# Altium schematic symbol library УГО.SchLib: 31 symbols
Pins are listed as number, name and electrical type; pins without a type are passive.

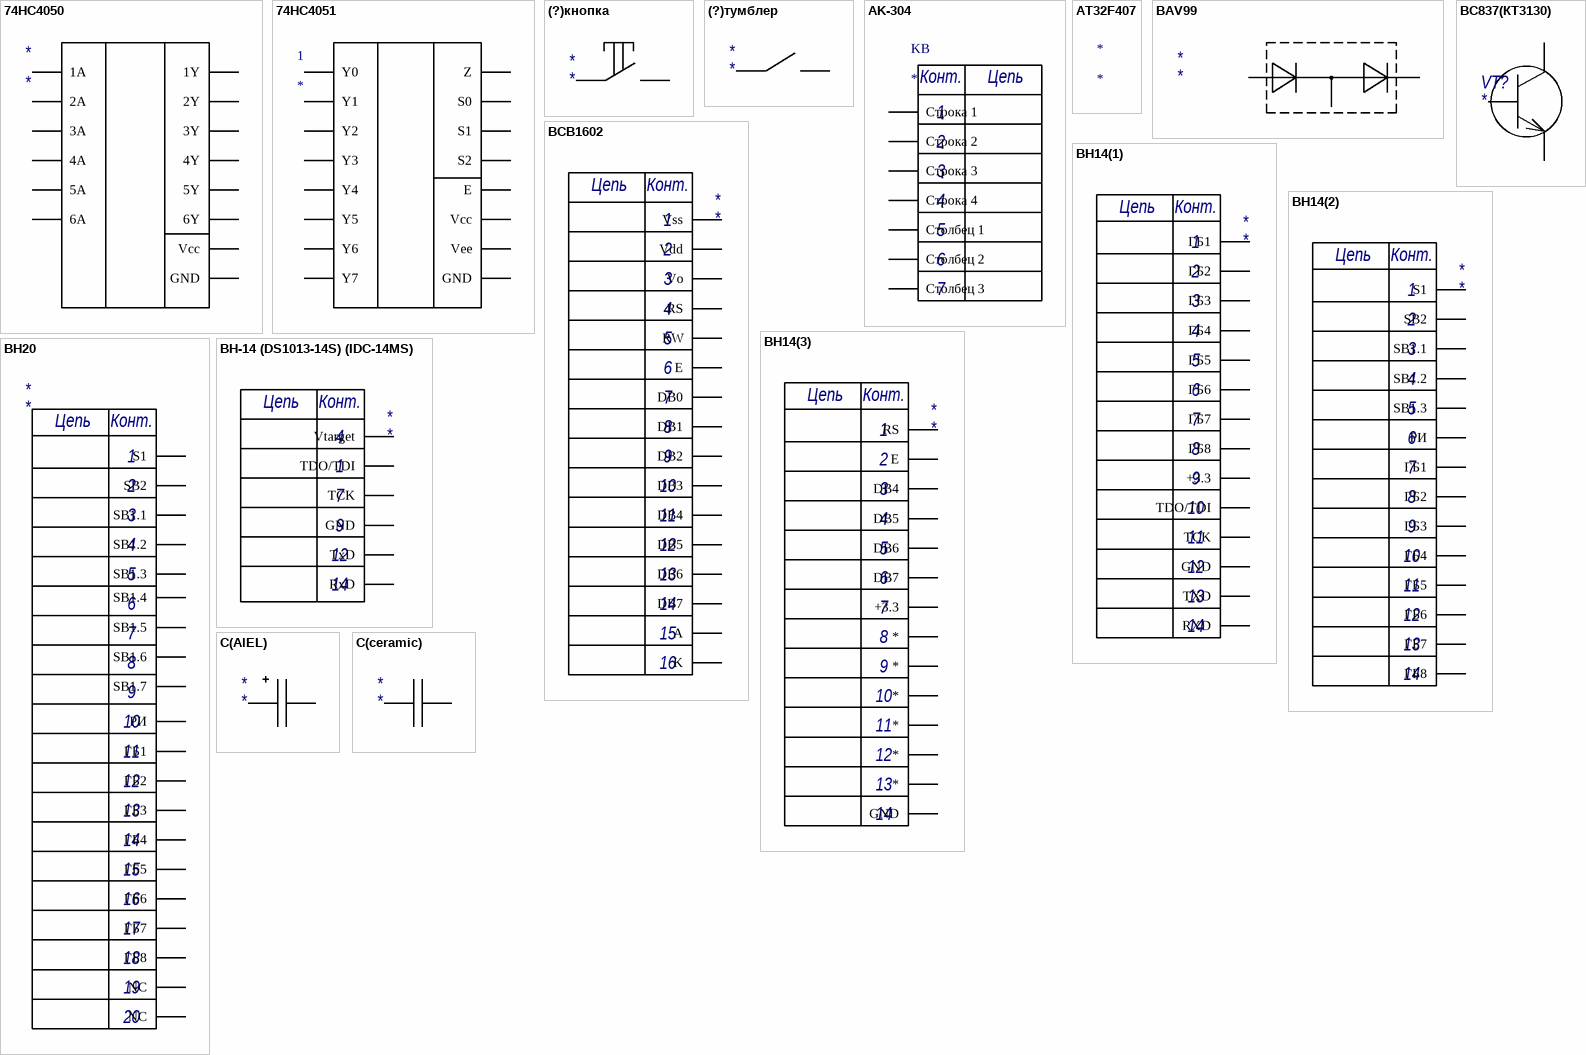
[diagram p0: symbols 74HC4050 to C(ceramic)]

## 74HC4050
designator *
footprint 74HC4050(51)
pins: 1 Vcc, 2 1Y, 3 1A, 4 2Y, 5 2A, 6 3Y, 7 3A, 8 GND, 9 4A, 10 4Y, 11 5A, 12 5Y, 14 6A, 15 6Y

## 74HC4051
designator 1
footprint 74HC4050(51)
pins: 1 Y4, 2 Y6, 3 Z, 4 Y7, 5 Y5, 6 E, 7 Vee, 8 GND, 9 S2, 10 S1, 11 S0, 12 Y3, 13 Y0, 14 Y1, 15 Y2, 16 Vcc

## (?)кнопка
designator *
footprint кнопка
pins: 1, 3

## (?)тумблер
designator *
footprint тумблер
footprint MTS-2
pins: 1, 2

## AK-304
designator KB
footprint AK-304-N-BBW
pins: 1 Строка 1, 2 Строка 2, 3 Строка 3, 4 Строка 4, 5 Столбец 1, 6 Столбец 2, 7 Столбец 3
text: Конт.; Цепь

## AT32F407
designator *

## BAV99
designator *
footprint BAV99 (SOT23, 3-Leads, Body 2,90x2,45mm, Pitch 1,05mm, IPC Medium Density)
pins: 1, 2, 3

## BC837(КТ3130)
designator VT?
footprint BC847(IRLML6402) (SOT23, 3-Leads, Body 2,80x2,30mm, Pitch 0,95mm, IPC Medium Density)
pins: 1, 2, 3

## BCB1602
designator *
footprint BCB1602
pins: 1 Vss, 2 Vdd, 3 Vo, 4 RS, 5 RW, 6 E, 7 DB0, 8 DB1, 9 DB2, 10 DB3, 11 DB4, 12 DB5, 13 DB6, 14 DB7, 15 A, 16 K
text: Цепь; Конт.

## BH14(1)
designator *
footprint BH-14 (DS1013-14S) (IDC-14MS)
pins: 1 ГБ1, 2 ГБ2, 3 ГБ3, 4 ГБ4, 5 ГБ5, 6 ГБ6, 7 ГБ7, 8 ГБ8, 9 +3.3, 10 TDO/TDI, 11 TCK, 12 GND, 13 TXD, 14 RXD
text: Цепь; Конт.

## BH14(2)
designator *
footprint BH-14 (DS1013-14S) (IDC-14MS)
pins: 1 S1, 2 SB2, 3 SB1.1, 4 SB1.2, 5 SB1.3, 6 РИ, 7 ГБ1, 8 ГБ2, 9 ГБ3, 10 ГБ4, 11 ГБ5, 12 ГБ6, 13 ГБ7, 14 ГБ8
text: Цепь; Конт.

## BH14(3)
designator *
footprint BH-14 (DS1013-14S) (IDC-14MS)
pins: 1 RS, 2 E, 3 DB4, 4 DB5, 5 DB6, 6 DB7, 7 +3.3, 8 *, 9 *, 10 *, 11 *, 12 *, 13 *, 14 GND
text: Цепь; Конт.

## BH20
designator *
footprint IDC20
pins: 1 S1, 2 SB2, 3 SB1.1, 4 SB1.2, 5 SB1.3, 6 SB1.4, 7 SB1.5, 8 SB1.6, 9 SB1.7, 10 РИ, 11 ГБ1, 12 ГБ2, 13 ГБ3, 14 ГБ4, 15 ГБ5, 16 ГБ6, 17 ГБ7, 18 ГБ8, 19 NC, 20 NC
text: Цепь; Конт.

## BH-14 (DS1013-14S) (IDC-14MS)
designator *
footprint BH-14 (DS1013-14S) (IDC-14MS)
pins: 1 TDO/TDI, 4 Vtarget, 7 TCK, 9 GND, 12 TxD, 14 RxD
text: Цепь; Конт.

## C(AlEL)
designator *
footprint C(AlEL)
pins: 1, 2

## C(ceramic)
designator *
footprint C(ceramic) (Chip Capacitor, 2-Leads, Body 2,00x1,25mm, IPC Medium Density)
pins: 1, 2

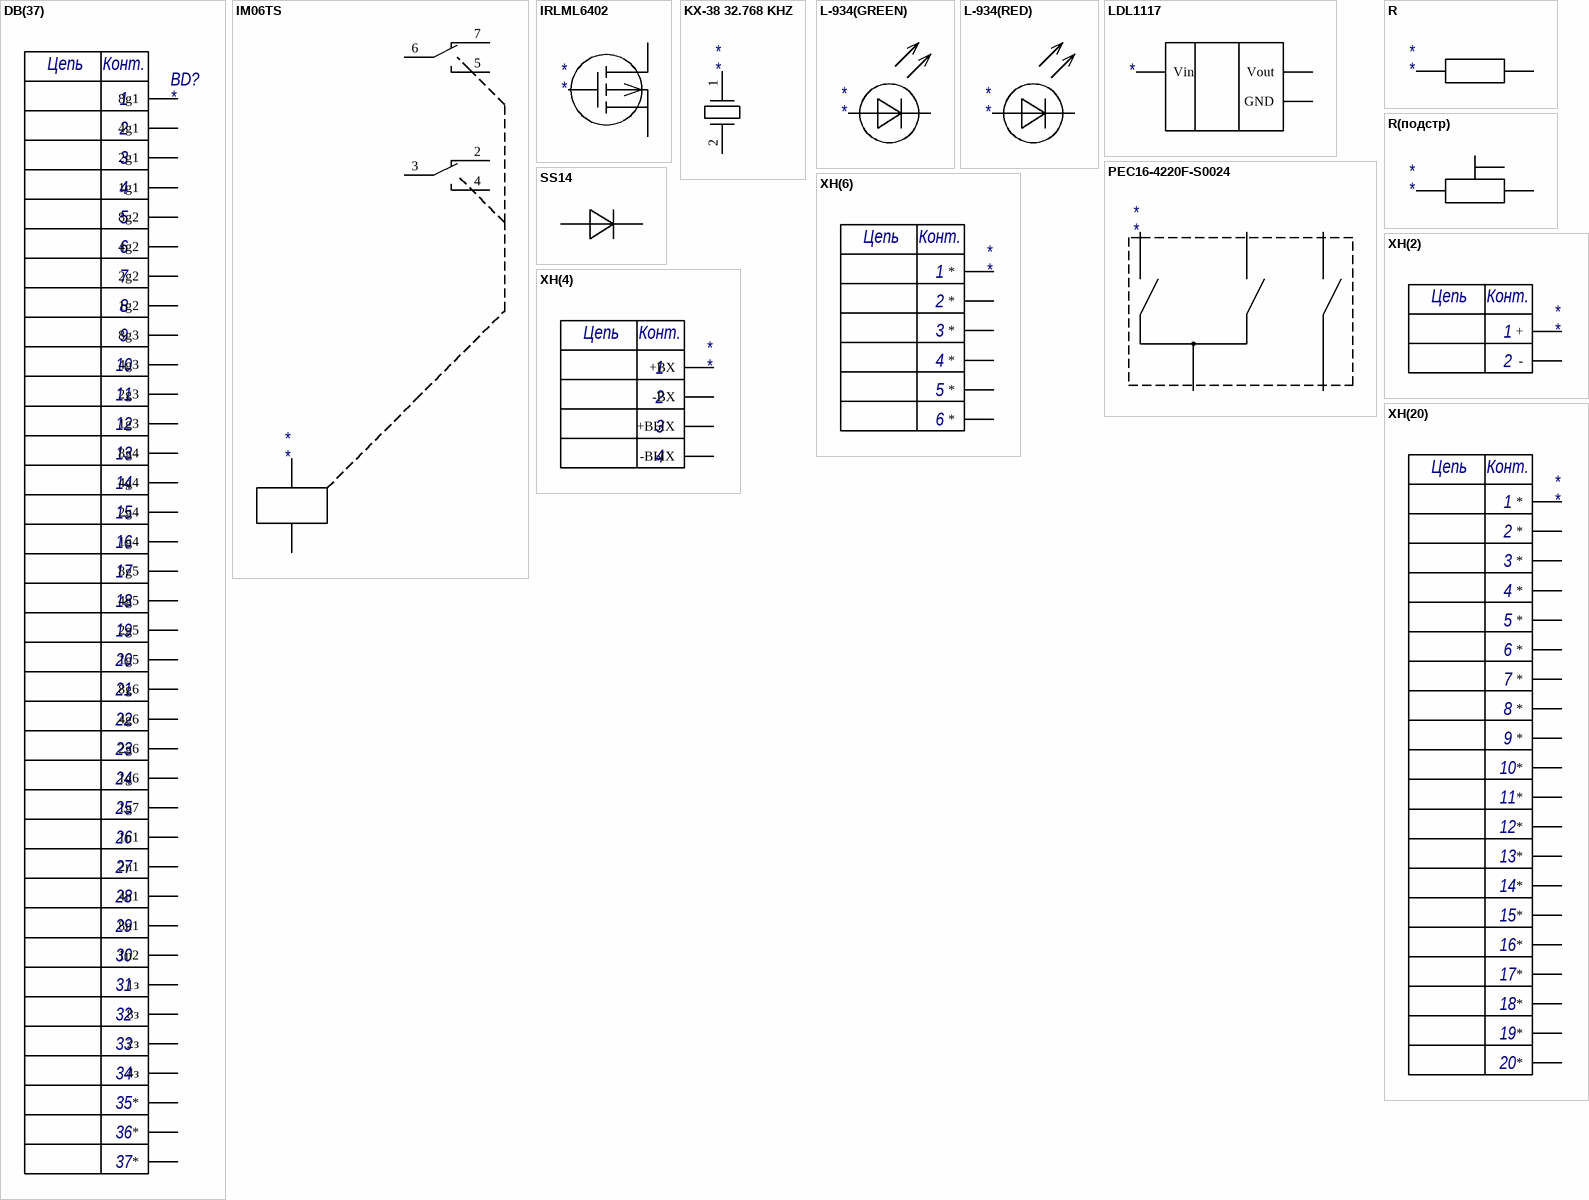
[diagram p1: symbols DB(37) to ХН(20)]

## DB(37)
designator BD?
footprint DB37
pins: 1 8g1, 2 4g1, 3 2g1, 4 1g1, 5 8g2, 6 4g2, 7 2g2, 8 1g2, 9 8g3, 10 4g3, 11 2g3, 12 1g3, 13 8g4, 14 4g4, 15 2g4, 16 1g4, 17 8g5, 18 4g5, 19  2g5, 20 1g5, 21 8g6, 22 4g6, 23 2g6, 24 1g6, 25 1g7, 26 1n1, 27 2n1, 28 4n1, 29 8n1, 30 1n2, 31 1з, 32 8з, 33 2з, 34 4з, 35 *, 36 *, 37 *
text: Цепь; Конт.

## IM06TS
designator *
footprint IM06TS
pins: 1, 2, 3, 4, 5, 6, 7, 8

## IRLML6402
designator *
footprint BC847(IRLML6402) (SOT23, 3-Leads, Body 2,80x2,30mm, Pitch 0,95mm, IPC Medium Density)
pins: 1, 2, 3

## KX-38 32.768 KHZ
designator *
footprint KX-38 32.768 KHZ
pins: 1, 2

## L-934(GREEN)
designator *
footprint L-934(GREEN)
pins: 1, 2

## L-934(RED)
designator *
footprint L-934(RED)
pins: 1, 2

## LDL1117
designator *
footprint LDL1117
pins: 1 GND, 2 Vout, 3 Vin

## PEC16-4220F-S0024
designator *
footprint PEC16-4220F-S0024
pins: 1, 2, 3, 4, 5

## R
designator *
footprint R (Chip Resistor, 2-Leads, Body 2,10x1,30mm, IPC Medium Density)
pins: 1, 2

## R(подстр)
designator *
footprint R(подстр)
pins: 1, 2, 3

## SS14
designator 1  (value not drawn)
footprint SS14
pins: 1, 2

## ХH(6)
designator *
footprint XH(6)
pins: 1 *, 2 *, 3 *, 4 *, 5 *, 6 *
text: Цепь; Конт.

## ХН(2)
designator *
footprint ХН(2)
pins: 1 +, 2 -
text: Цепь; Конт.

## ХН(4)
designator *
footprint ХН(4)
pins: 1 +ВХ, 2 -ВХ, 3 +ВЫХ, 4 -ВЫХ
text: Цепь; Конт.

## ХН(20)
designator *
footprint ХН(20)
pins: 1 *, 2 *, 3 *, 4 *, 5 *, 6 *, 7 *, 8 *, 9 *, 10 *, 11 *, 12 *, 13 *, 14 *, 15 *, 16 *, 17 *, 18 *, 19 *, 20 *
text: Цепь; Конт.